# EAGLE library part TI-TPS62A01 (library EagleLibrary)
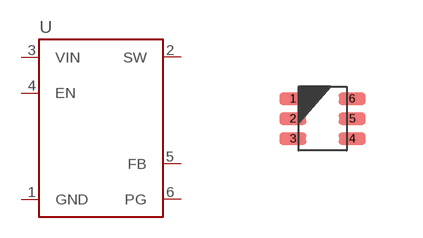
[diagram p49: symbol with the pads of TI-TPS62A01DRLR; footprint TI-TPS62A01DRLR]

Designator prefix U

## TI-TPS62A01 (MFG: Texas Instruments; PN: TPS62A01DRLR)  [TI-TPS62A01DRLR]
1  GND
2  SW
3  VIN
4  EN
5  FB
6  PG

## Footprint TI-TPS62A01DRLR (pad centres in mm)
5-SOT23, 0.95 mm pitch, 2.80 mm span, 2.90 X 1.60 X 1.45 mm body 5-pin SOT23 package with 0.95 mm pitch, 2.80 mm span with body size 2.90 X 1.60 X 1.45 mm
smd 0.67 x 0.3: 1 -0.74,0.5; 2 -0.74,0; 3 -0.74,-0.5; 4 0.74,-0.5; 5 0.74,0; 6 0.74,0.5